# Altium schematic symbol library Schlib.SchLib: 166 symbols (part 2 of 4)
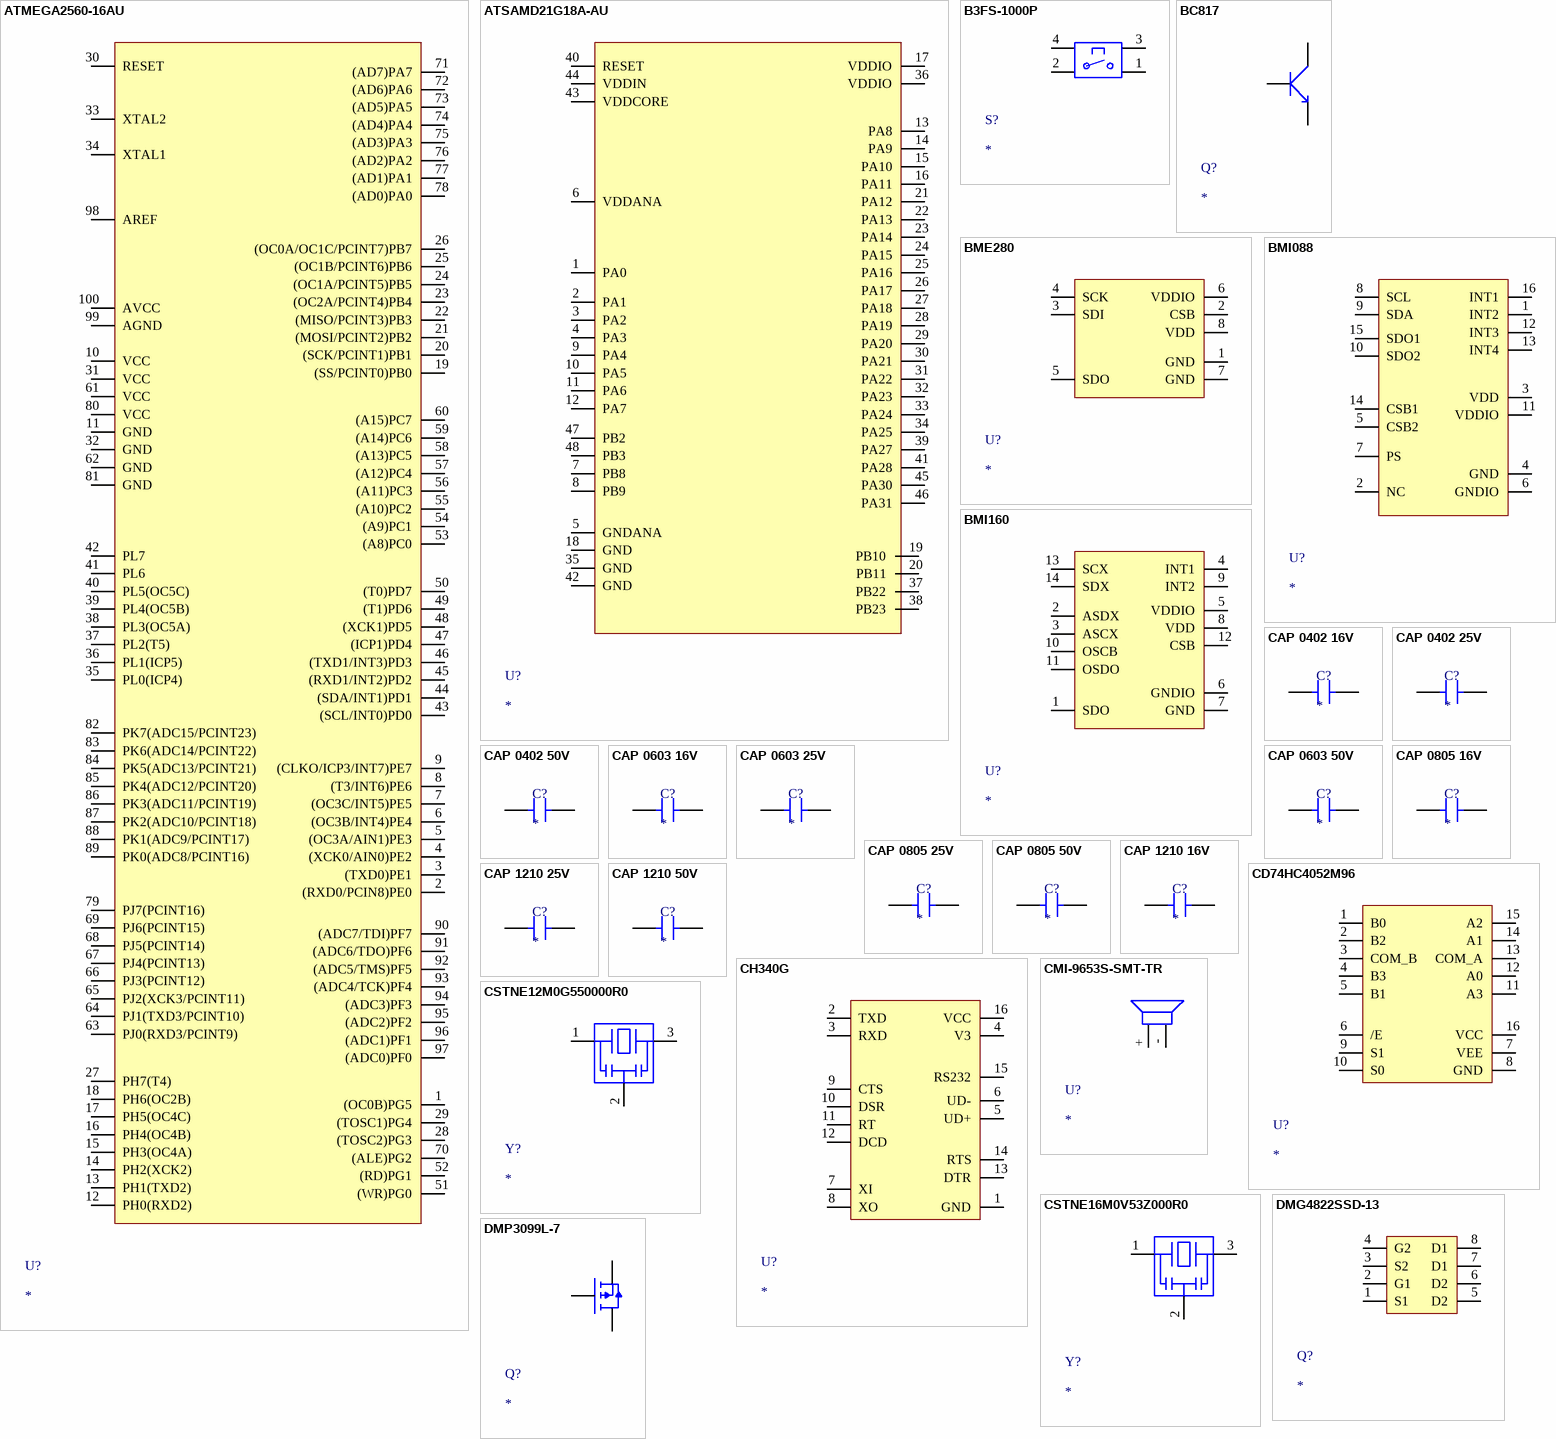
[diagram p7: symbols ATMEGA2560-16AU to DMP3099L-7]

## CMI-9653S-SMT-TR
designator U?
Buffer/Inverter Based Peripheral Driver, 1 Driver, PDSO8; Manufacturer: Same Sky; Manufacturer Part Number: CMI-9653S-SMT-TR; Package Body Material: Plastic; Built-in Protections: Over Current,Over Voltage,Under Voltage,TRANSIENT,THERMAL; Driver Number of Bits: 1; Interface IC Type: BUFFER OR INVERTER BASED PERIPHERAL DRIVER; Output Current Flow Direction: SOURCE; Package Equivalence Code: SOP8,.25; Power Supplies: 8/28V; Max Supply Voltage: 28V; Min Supply Voltage: 4.5V; Nominal Supply Voltage: 13V; Qualification Status: Not Qualified; Supplier: Arrow Electronics; Supplier Part Number: CMI-9653S-SMT-TR; RoHS: No; Stock: 15000; Pricing: 1200=1,596 (USD); ComponentLink1URL: https://www.cuidevices.com/product/resource/digikeypdf/cmi-9653s-smt-tr.pdf?src-supplier=Digikey; ComponentLink1Description: https://www.cuidevices.com/product/resource/digikeypdf/cmi-9653s-smt-tr.pdf?src-supplier=Digikey; ComponentLink2URL: https://datasheet.octopart.com/CMI-9653S-SMT-TR-Same-Sky-datasheet-182049004.pdf?src-supplier=Future+Electronics; ComponentLink2Description: https://datasheet.octopart.com/CMI-9653S-SMT-TR-Same-Sky-datasheet-182049004.pdf?src-supplier=Future+Electronics; ComponentLink3URL: https://datasheet.octopart.com/CMI-9653S-SMT-TR-CUI-Devices-datasheet-175925367.pdf?src-supplier=Master+Electronics; ComponentLink3Description: https://datasheet.octopart.com/CMI-9653S-SMT-TR-CUI-Devices-datasheet-175925367.pdf?src-supplier=Master+Electronics; Category: Hot Swap Controllers; Case/Package: SOP; Pins: 8; Package Shape: Rectangular; JESD-30 Code: R-PDSO-G8; Channels: 1; Package Style: SMALL OUTLINEMeter; Surface Mount: Yes; Terminal Form: Gull Wing; Terminal Position: DUAL; Length: 4.9mm; Width: 3.9mm; Height - Seated (Max): 1.75mm; Terminal Pitch: 1.27mm; Reach SVHC Compliant: Yes; RoHS Compliant: Yes; ComponentLink4URL: https://datasheet.ciiva.com:443/pdfs/VipMasterIC/IC/SGST/SGSTS49904/SGSTS49904-1.pdf?src-supplier=IHS+Markit; ComponentLink4Description: https://datasheet.ciiva.com:443/pdfs/VipMasterIC/IC/SGST/SGSTS49904/SGSTS49904-1.pdf?src-supplier=IHS+Markit; ComponentLink5URL: https://datasheet.ciiva.com/12213/cd00161993-115163-12213649.pdf?src-supplier=Mouser; ComponentLink5Description: https://datasheet.ciiva.com/12213/cd00161993-115163-12213649.pdf?src-supplier=Mouser; ComponentLink6URL: https://datasheet.ciiva.com/16510/cd00161993-16510912.pdf?src-supplier=Future+Electronics; ComponentLink6Description: https://datasheet.ciiva.com/16510/cd00161993-16510912.pdf?src-supplier=Future+Electronics; ComponentLink7URL: https://datasheet.ciiva.com/1956/cd00161993-1956305.pdf?src-supplier=Digikey; ComponentLink7Description: https://datasheet.ciiva.com/1956/cd00161993-1956305.pdf?src-supplier=Digikey
footprint CMI-9653S
pins: +, -

## CSTNE12M0G550000R0
designator Y?
Ceramic Resonator 12MHz ±0.5% (Tol ) ±0.2% (Stability) 33PF 30Ohm 3-Pin CSMD; Manufacturer: Murata; Manufacturer Part Number: CSTNE12M0G550000R0; Supplier 1: CoreStaff; RoHS: Yes; Category: Resonators; Stock 1: 10; Pricing 1: 1=77,6, 10=58,2, 50=36,86, 100=27,16, 500=17,46, 1000=15,52, 2000=14,55, 4000=14,36 (JPY); ComponentLink1URL: https://www.murata.com/en/products/productdata/8801162067998/SPEC-CSTNE12M0G550000R0.pdf?src-supplier=Digi-Key; ComponentLink1Description: https://www.murata.com/en/products/productdata/8801162067998/SPEC-CSTNE12M0G550000R0.pdf?src-supplier=Digi-Key; ComponentLink2URL: https://datasheet.octopart.com/CSTNE12M0G550000R0-Murata-datasheet-137044759.pdf?src-supplier=Future+Electronics; ComponentLink2Description: https://datasheet.octopart.com/CSTNE12M0G550000R0-Murata-datasheet-137044759.pdf?src-supplier=Future+Electronics; ComponentLink3URL: https://datasheet.octopart.com/CSTNE12M0G550000R0-Murata-datasheet-165611788.pdf?src-supplier=TME; ComponentLink3Description: https://datasheet.octopart.com/CSTNE12M0G550000R0-Murata-datasheet-165611788.pdf?src-supplier=TME
footprint CSTNE16M0V53Z000R0
pins: 1, 2, 3

## CSTNE16M0V53Z000R0
designator Y?
Ceramic Resonator 16MHz ±0.5% (Tol) ±0.3% (Stability) 15pF 40Ohm 3-Pin CSMD T/R; Manufacturer: Murata; Manufacturer Part Number: CSTNE16M0V53Z000R0; Impedance: 40R; Supplier 1: Arrow Electronics; RoHS: Yes; Category: Resonators; Stock 1: 87000; Pricing 1: 3000=0,1298, 6000=0,1244, 15000=0,1189 (USD); Mount: Surface Mount; Case/Package: SMD/SMT; Min Operating Temperature: -40°C; Max Operating Temperature: 125°C; Packaging: Cut Tape; Frequency: 16MHz; Frequency Stability: 0.3%; Frequency Tolerance: 0.5%; Capacitance: 15pF; Series: CERALOCK® CSTNE; RoHS Compliant: Yes; ComponentLink1URL: https://www.murata.com/en/products/productdata/8801162199070/SPEC-CSTNE16M0V53Z000R0.pdf?src-supplier=Digi-Key; ComponentLink1Description: https://www.murata.com/en/products/productdata/8801162199070/SPEC-CSTNE16M0V53Z000R0.pdf?src-supplier=Digi-Key
footprint CSTNE16M0V53Z000R0
pins: 1, 2, 3

## DMG4822SSD-13
designator Q?
Dual N-Channel 30 V 1.42 W 10.5 nC Enhancement Mode Mosfet - SOIC-8; Manufacturer: Diodes; Manufacturer Part Number: DMG4822SSD-13; Rds On Max: 20mR; Input Capacitance: 478.9pF; Rise Time: 7.9ns; Drain to Source Voltage (Vdss): 30V; Continuous Drain Current (ID): 10A; Max Power Dissipation: 1.42W; Fall Time: 3.1ns; Turn-Off Delay Time: 14.6ns; Turn-On Delay Time: 2.9ns; Gate to Source Voltage (Vgs): 25V; Number of Channels: 2; FET Type: 2 N-Channel; Supplier 1: Arrow Electronics; RoHS: Yes; Category: MOSFETs; Stock 1: 2374; Pricing 1: 1=0,5556, 10=0,4998, 25=0,4948, 100=0,3987, 250=0,3947, 500=0,3232, 1000=0,265 (USD); Mount: Surface Mount; Case/Package: SOIC; Number of Pins: 8; Weight: 0.00261oz; Min Operating Temperature: -55°C; Max Operating Temperature: 150°C; Package Quantity: 2500; Packaging: Tape and Reel; Drain to Source Resistance: 20mR; Polarity: N-CHANNEL; Series: -; Length: 4.95mm; Width: 3.95mm; Height: 1.5mm; Radiation Hardening: No; Lead Free: Lead Free; Reach SVHC Compliant: Yes; RoHS Compliant: Yes; ComponentLink1URL: https://datasheet.ciiva.com/4443/dmg4822ssd-10758-4443079.pdf?src-supplier=Mouser; ComponentLink1Description: https://datasheet.ciiva.com/4443/dmg4822ssd-10758-4443079.pdf?src-supplier=Mouser; ComponentLink2URL: https://datasheet.ciiva.com/6386/dmg4822ssd-6386688.pdf?src-supplier=Digi-Key; ComponentLink2Description: https://datasheet.ciiva.com/6386/dmg4822ssd-6386688.pdf?src-supplier=Digi-Key; ComponentLink3URL: https://datasheet.ciiva.com/11174/dmg4822ssd-11174891.pdf?src-supplier=Avnet; ComponentLink3Description: https://datasheet.ciiva.com/11174/dmg4822ssd-11174891.pdf?src-supplier=Avnet
footprint DMG4822SSD-13
pins: 1 S1, 2 G1, 3 S2, 4 G2, 5 D2, 6 D2, 7 D1, 8 D1

## DMP3099L-7
designator Q?
Transistor, MOSFET, P-Channel, 30V, 3.8A, 1.08W, SOT-23, SMD; Manufacturer: Diodes; Manufacturer Part Number: DMP3099L-7; Rise Time: 5ns; Rds On Max: 65mR; Input Capacitance: 563pF; Drain to Source Voltage (Vdss): -30V; Turn-On Delay Time: 4.8ns; Turn-Off Delay Time: 31ns; Fall Time: 15ns; Threshold Voltage: -2.1V; Gate to Source Voltage (Vgs): 20V; Number of Channels: 1; Supplier 1: Future Electronics; RoHS: Yes; Category: MOSFETs; Stock 1: 1128000; Pricing 1: 3000=0,0338 (USD); Mount: Surface Mount; Case/Package: SOT-23; Number of Pins: 3; Weight: 0.000282oz; Min Operating Temperature: -55°C; Max Operating Temperature: 150°C; Package Quantity: 3000; Packaging: Tape and Reel; Continuous Drain Current (ID): 3.8A; Max Power Dissipation: 1.08W; Drain to Source Resistance: 65mR; Polarity: P-CHANNEL; Series: -; Drain to Source Breakdown Voltage: -30V; Power Dissipation: 1.08W; Length: 3mm; Width: 1.4mm; Height: 1.1mm; Radiation Hardening: No; Reach SVHC Compliant: No; Lead Free: Lead Free; RoHS Compliant: Yes; ComponentLink1URL: http://www.farnell.com/datasheets/2040103.pdf?src-supplier=Farnell; ComponentLink1Description: http://www.farnell.com/datasheets/2040103.pdf?src-supplier=Farnell; ComponentLink2URL: http://www.mouser.com/ds/2/115/DMP3099L-266220.pdf?src-supplier=Mouser; ComponentLink2Description: http://www.mouser.com/ds/2/115/DMP3099L-266220.pdf?src-supplier=Mouser; ComponentLink3URL: http://www.alliedelec.com/m/d/a7453f83181edfde31570147b9d1ef2f.pdf?src-supplier=Allied+Electronics; ComponentLink3Description: http://www.alliedelec.com/m/d/a7453f83181edfde31570147b9d1ef2f.pdf?src-supplier=Allied+Electronics; ComponentLink4URL: http://www.farnell.com/datasheets/2040103.pdf?src-supplier=Element14; ComponentLink4Description: http://www.farnell.com/datasheets/2040103.pdf?src-supplier=Element14; ComponentLink5URL: http://www.farnell.com/datasheets/2040103.pdf?src-supplier=Newark; ComponentLink5Description: http://www.farnell.com/datasheets/2040103.pdf?src-supplier=Newark; ComponentLink6URL: http://www.diodes.com/datasheets/DMP3099L.pdf?src-supplier=Avnet; ComponentLink6Description: http://www.diodes.com/datasheets/DMP3099L.pdf?src-supplier=Avnet
footprint Si2309CDS
pins: 1 G, 2 S, 3 D

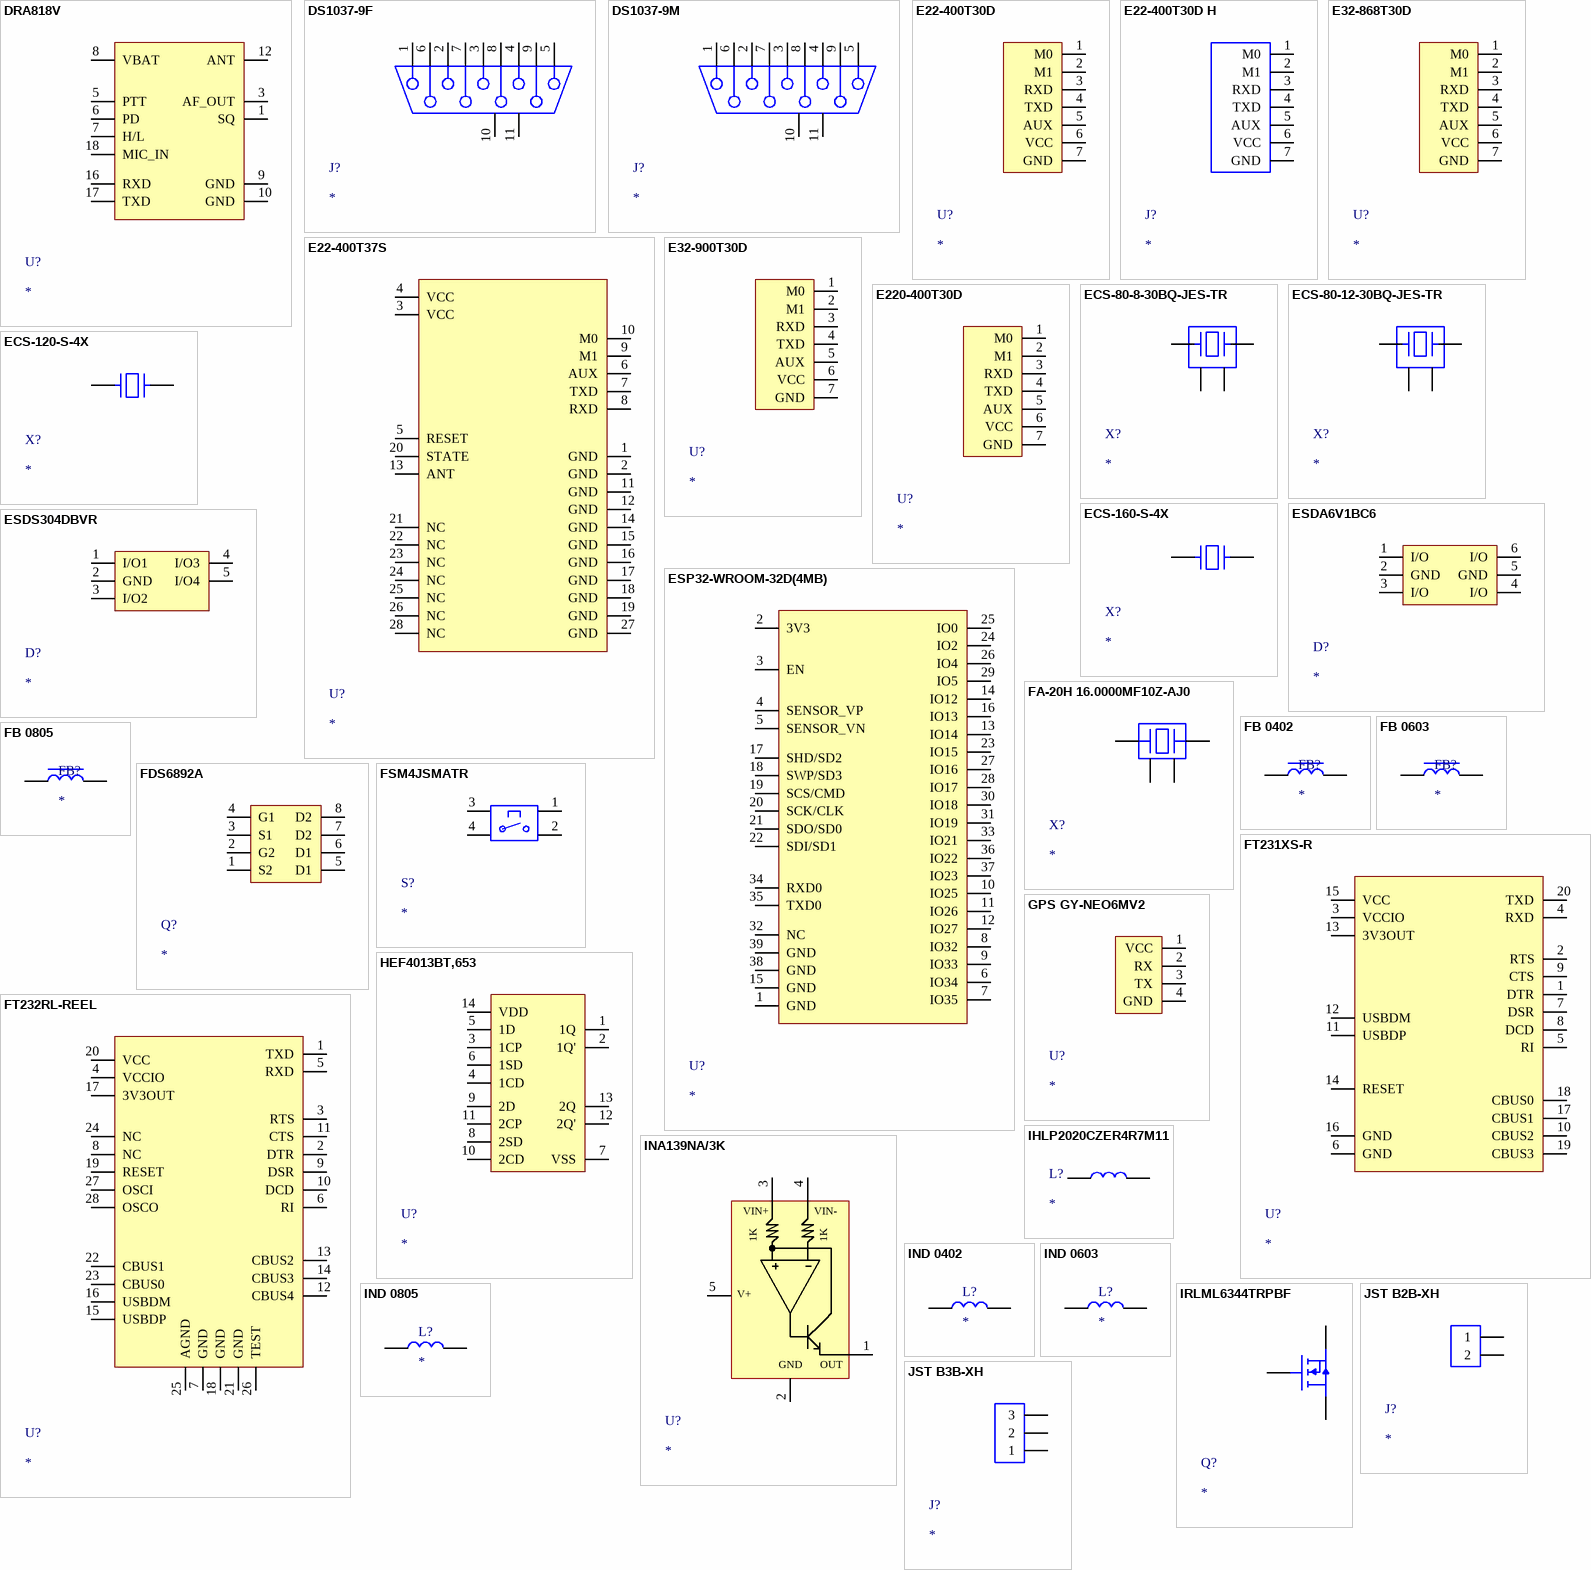
[diagram p2: symbols DRA818V to JST B3B-XH]

## DRA818V
designator U?
VHF Band Voice Transceiver Module
footprint DORJI_DRA818V
pins: 1 SQ, 3 AF_OUT, 5 PTT, 6 PD, 7 H/L, 8 VBAT, 9 GND, 10 GND, 12 ANT, 16 RXD, 17 TXD, 18 MIC_IN

## DS1037-9F
designator J?
DBUS connector 9 Pin Female
footprint DS1037-F
pins: 1, 2, 3, 4, 5, 6, 7, 8, 9, 10, 11

## DS1037-9M
designator J?
DBUS connector 9 Pin Male
footprint DS1037-M
pins: 1, 2, 3, 4, 5, 6, 7, 8, 9, 10, 11

## E22-400T30D
designator U?
SX1268 E22-400T30D LoRa Module Header
footprint LORA E220-400T30D
pins: 1 M0, 2 M1, 3 RXD, 4 TXD, 5 AUX, 6 VCC, 7 GND

## E22-400T30D H
designator J?
E22-400T30D LoRa Module Header
footprint LoRa E22-400T30D H
pins: 1 M0, 2 M1, 3 RXD, 4 TXD, 5 AUX, 6 VCC, 7 GND

## E22-400T37S
designator U?
SX1268 E22-400T37S LoRa Module
footprint LORA E22-400T37S
pins: 1 GND, 2 GND, 3 VCC, 4 VCC, 5 RESET, 6 AUX, 7 TXD, 8 RXD, 9 M1, 10 M0, 11 GND, 12 GND, 13 ANT, 14 GND, 15 GND, 16 GND, 17 GND, 18 GND, 19 GND, 20 STATE, 21 NC, 22 NC, 23 NC, 24 NC, 25 NC, 26 NC, 27 GND, 28 NC

## E32-868T30D
designator U?
SX1276 E32-868T30D LoRa Module
footprint LoRa E32-868T30D
pins: 1 M0, 2 M1, 3 RXD, 4 TXD, 5 AUX, 6 VCC, 7 GND

## E32-900T30D
designator U?
SX1276 E32-868T30D LoRa Module
footprint LORA E32-900T30D
pins: 1 M0, 2 M1, 3 RXD, 4 TXD, 5 AUX, 6 VCC, 7 GND

## E220-400T30D
designator U?
LLCC68 E220-400T30D LoRa Module
footprint LORA E220-400T30D
pins: 1 M0, 2 M1, 3 RXD, 4 TXD, 5 AUX, 6 VCC, 7 GND

## ECS-80-8-30BQ-JES-TR
designator X?
Crystals ECX-53BQ 8.000 MHz 8 pF 5032 4 pad AECQ +/-20/50 ppm -40 +125 C 100O Max ESR; Manufacturer: ECS International; Manufacturer Part Number: ECS-80-8-30BQ-JES-TR; Supplier 1: Digi-Key; RoHS: No; Stock 1: 18392; Pricing 1: 1=0,79, 10=0,697, 50=0,6514, 100=0,5757, 500=0,5454 (USD); Supplier Part Number 1: 50-ECS-80-8-30BQ-JES-CT-ND
footprint ECS-80-8-30BQ-JES-TR
pins: 1 IN/OUT, 2 GND, 3 OUT/IN, 4 GND

## ECS-80-12-30BQ-JES-TR
designator X?
Crystal 8MHz 12pF 4-Pin SMD T/R; Manufacturer: ECS International; Manufacturer Part Number: ECS-80-12-30BQ-JES-TR; Supplier 1: Digi-Key; RoHS: No; Category: Uncategorized; Stock 1: 8978; Pricing 1: 1=0,88, 10=0,777, 50=0,7266, 100=0,6421, 500=0,60834 (USD); Supplier Part Number 1: 50-ECS-80-12-30BQ-JES-CT-ND
footprint ECS-80-8-30BQ-JES-TR
pins: 1 IN/OUT, 2 GND, 3 OUT/IN, 4 GND

## ECS-120-S-4X
designator X?
Crystal 12MHz ±30ppm (Tol) ±50ppm (Stability) Series FUND 60Ohm 2-Pin HC-49/USX Thru-Hole Bulk; Manufacturer: ECS International; Manufacturer Part Number: ECS-120-S-4X; ESR (Equivalent Series Resistance): 60R; Supplier 1: Arrow Electronics; RoHS: Yes; Category: Crystals; Stock 1: 2209; Pricing 1: 1=0,4681, 10=0,407, 50=0,4025, 100=0,3735, 500=0,3613, 1000=0,3221, 2500=0,3087 (USD); Mount: Through Hole; Number of Pins: 49; Min Operating Temperature: -10°C; Max Operating Temperature: 70°C; Frequency: 12MHz; Package Quantity: 200; Tolerance: 30ppm; Packaging: Bulk; Frequency Tolerance: 30ppm; Frequency Stability: 50ppm; Termination: Radial; Series: HC-49USX; Length: 11.35mm; Width: 4.65mm; Height: 3.5mm; Lead Free: Lead Free; ComponentLink1URL: https://datasheet.ciiva.com/853/hc-49usx-853380.pdf?src-supplier=Digi-Key; ComponentLink1Description: https://datasheet.ciiva.com/853/hc-49usx-853380.pdf?src-supplier=Digi-Key
footprint XTAL_ECS-120-S-4X
pins: 1, 2

## ECS-160-S-4X
designator X?
Crystal 16MHz ±30ppm (Tol) ±50ppm (Stability) Series FUND 40Ohm 2-Pin HC-49/USX Thru-Hole Bulk; Manufacturer: ECS International; Manufacturer Part Number: ECS-160-S-4X; ESR (Equivalent Series Resistance): 40R; Supplier 1: Arrow Electronics; RoHS: Yes; Category: Crystals; Stock 1: 1199; Pricing 1: 1=0,4681, 10=0,407, 50=0,4024, 100=0,3736, 500=0,36, 1000=0,3221, 2500=0,3088 (USD); Mount: Through Hole; Min Operating Temperature: -10°C; Max Operating Temperature: 70°C; Package Quantity: 200; Frequency: 16MHz; Frequency Tolerance: 30ppm; Packaging: Bulk; Tolerance: 30ppm; Frequency Stability: 50ppm; Termination: Radial; Series: HC-49USX; Length: 11.35mm; Width: 4.65mm; Height: 3.5mm; Lead Free: Lead Free; RoHS Compliant: Yes; ComponentLink1URL: https://datasheet.ciiva.com/853/hc-49usx-853395.pdf?src-supplier=Digi-Key; ComponentLink1Description: https://datasheet.ciiva.com/853/hc-49usx-853395.pdf?src-supplier=Digi-Key
footprint XTAL_ECS-160-S-4X
pins: 1, 2

## ESDA6V1BC6
designator D?
Trans Voltage Suppressor Diode, 80W, 5V V(RWM), Bidirectional, 4 Element, Silicon; Manufacturer: STMicroelectronics; Manufacturer Part Number: ESDA6V1BC6; Package Body Material: Plastic; Max Breakdown Voltage: 8V; Min Breakdown Voltage: 6.1V; Number of Elements: 4; Time @ Peak Reflow Temperature-Max (s): 30s; Qualification Status: Not Qualified; Supplier: Arrow Electronics; Supplier Part Number: ESDA6V1BC6; RoHS: Yes; Category: TVS Diodes; Stock: 84000; Pricing: 3000=0,1532 (USD); Pins: 6; Diode Element Material: SILICON; Package Shape: Rectangular; Terminal Finish: Nickel; Max Operating Temperature: 150°C; JESD-609 Code: e4; Polarity: Bidirectional; Diode Type: TRANS VOLTAGE SUPPRESSOR; JESD-30 Code: R-PDSO-G6; Moisture Sensitivity Level: 1; Non-rep Peak Rev Power Dis-Max: 80W; Package Style: SMALL OUTLINEMeter; Peak Reflow Temperature (Cel): 260°C; Rep Pk Reverse Voltage-Max: 5V; Surface Mount: Yes; Technology: AVALANCHE; Terminal Form: Gull Wing; Terminal Position: DUAL; Reach SVHC Compliant: Yes; RoHS Compliant: Yes; ComponentLink1URL: https://datasheet.ciiva.com:443/pdfs/VipMasterIC/IC/SGST/SGSTS47549/SGSTS47549-1.pdf?src-supplier=IHS+Markit; ComponentLink1Description: https://datasheet.ciiva.com:443/pdfs/VipMasterIC/IC/SGST/SGSTS47549/SGSTS47549-1.pdf?src-supplier=IHS+Markit; ComponentLink2URL: https://datasheet.ciiva.com/14186/esda6v1bc6-st-eng-tds-14186554.pdf?src-supplier=Distrelec; ComponentLink2Description: https://datasheet.ciiva.com/14186/esda6v1bc6-st-eng-tds-14186554.pdf?src-supplier=Distrelec; ComponentLink3URL: https://datasheet.ciiva.com/4507/cd00001906-94538-4507893.pdf?src-supplier=Mouser; ComponentLink3Description: https://datasheet.ciiva.com/4507/cd00001906-94538-4507893.pdf?src-supplier=Mouser; ComponentLink4URL: https://datasheet.ciiva.com/15143/getdatasheetpartid-148472-15143793.pdf?src-supplier=Verical; ComponentLink4Description: https://datasheet.ciiva.com/15143/getdatasheetpartid-148472-15143793.pdf?src-supplier=Verical; ComponentLink5URL: https://datasheet.ciiva.com/7662/1671767-7662124.pdf?src-supplier=Element14; ComponentLink5Description: https://datasheet.ciiva.com/7662/1671767-7662124.pdf?src-supplier=Element14; ComponentLink6URL: https://datasheet.ciiva.com/338/cd00001906-338704.pdf?src-supplier=Digikey; ComponentLink6Description: https://datasheet.ciiva.com/338/cd00001906-338704.pdf?src-supplier=Digikey; ComponentLink7URL: https://datasheet.ciiva.com/338/cd00001906-338705.pdf?src-supplier=Digikey; ComponentLink7Description: https://datasheet.ciiva.com/338/cd00001906-338705.pdf?src-supplier=Digikey; ComponentLink8URL: https://datasheet.ciiva.com/11194/cd00001906-11194053.pdf?src-supplier=Avnet; ComponentLink8Description: https://datasheet.ciiva.com/11194/cd00001906-11194053.pdf?src-supplier=Avnet
footprint SOT-23-6
pins: 1 I/O, 2 GND, 3 I/O, 4 I/O, 5 GND, 6 I/O

## ESDS304DBVR
designator D?
Trans Voltage Suppressor Diode, 85W, 3.6V V(RWM), Unidirectional, 4 Element, Silicon; Manufacturer: Texas Instruments; Manufacturer Part Number: ESDS304DBVR; Supplier: Mouser; Supplier Part Number: 595-ESDS304DBVR; RoHS: Yes; Category: TVS Diodes; Stock: 132; Pricing: 1=0,45, 10=0,304, 50=0,304, 100=0,282, 1000=0,202, 10000=0,15 (USD); Terminal Finish: Tin; JESD-609 Code: e3; Diode Type: TRANS VOLTAGE SUPPRESSOR; Moisture Sensitivity Level: 1; Reach SVHC Compliant: Yes; RoHS Compliant: Yes; ComponentLink1URL: https://www.ti.com:443/lit/ds/symlink/esds302.pdf?src-supplier=IHS+Markit; ComponentLink1Description: https://www.ti.com:443/lit/ds/symlink/esds302.pdf?src-supplier=IHS+Markit; ComponentLink2URL: http://www.ti.com/lit/ds/symlink/esds302.pdf?src-supplier=Digikey; ComponentLink2Description: http://www.ti.com/lit/ds/symlink/esds302.pdf?src-supplier=Digikey
footprint SOT-23-5
pins: 1 I/O1, 2 GND, 3 I/O2, 4 I/O3, 5 I/O4

## ESP32-WROOM-32D(4MB)
designator U?
Rx Txrx Mod Wifi Trace Ant SMD; Manufacturer: Espressif Systems; Manufacturer Part Number: ESP32-WROOM-32D(4MB); Supplier: Mouser; Supplier Part Number: 356-ESP32WROOM32D4MB; RoHS: No; Category: LDO
footprint ESP32-WROOM-32
pins: 1 GND, 2 3V3, 3 EN, 4 SENSOR_VP, 5 SENSOR_VN, 6 IO34, 7 IO35, 8 IO32, 9 IO33, 10 IO25, 11 IO26, 12 IO27, 13 IO14, 14 IO12, 15 GND, 16 IO13, 17 SHD/SD2, 18 SWP/SD3, 19 SCS/CMD, 20 SCK/CLK, 21 SDO/SD0, 22 SDI/SD1, 23 IO15, 24 IO2, 25 IO0, 26 IO4, 27 IO16, 28 IO17, 29 IO5, 30 IO18, 31 IO19, 32 NC, 33 IO21, 34 RXD0, 35 TXD0, 36 IO22, 37 IO23, 38 GND, 39 GND

## FA-20H 16.0000MF10Z-AJ0
designator X?
Crystal 16MHz ±10ppm (Tol) ±10ppm (Stability) 8pF FUND 80Ohm 4-Pin Ultra Mini-CSMD T/R; Manufacturer: Epson; Manufacturer Part Number: FA-20H 16.0000MF10Z-AJ0; Supplier 1: Digi-Key; RoHS: Yes; Category: Crystals; Stock 1: 229665; Pricing 1: 1=0,73, 10=0,606, 50=0,5454, 100=0,4848, 500=0,46056 (USD); ComponentLink1URL: https://support.epson.biz/td/api/doc_check.php?dl=brief_FA-20H&amp;lang=en&src-supplier=Digi-Key; ComponentLink1Description: https://support.epson.biz/td/api/doc_check.php?dl=brief_FA-20H&amp;lang=en&src-supplier=Digi-Key; ComponentLink2URL: https://www5.epsondevice.com/en/information/support/pdf/june_2018_psc_masterbook.pdf?src-supplier=Digi-Key; ComponentLink2Description: https://www5.epsondevice.com/en/information/support/pdf/june_2018_psc_masterbook.pdf?src-supplier=Digi-Key; ComponentLink3URL: https://www.eea.epson.com/wp-content/uploads/2016/11/November-2016-PCS-MASTER-BOOK.pdf?src-supplier=Digi-Key; ComponentLink3Description: https://www.eea.epson.com/wp-content/uploads/2016/11/November-2016-PCS-MASTER-BOOK.pdf?src-supplier=Digi-Key
footprint FA-20H 16.0000MF10Z-AJ0
pins: 1, 2, 3, 4

## FB 0402
designator FB?
Ferrite Bead SMD 0402
footprint FB 0402
pins: 1, 2

## FB 0603
designator FB?
Ferrite Bead SMD 0603
footprint FB 0603
pins: 1, 2

## FB 0805
designator FB?
Ferrite Bead SMD 0805
footprint FB 0805
pins: 1, 2

## FDS6892A
designator Q?
Dual N-Channel Logic Level PWM Optimized PowerTrench® MOSFET 20V, 7.5A, 18mΩ; Manufacturer: ON Semiconductor / Fairchild; Manufacturer Part Number: FDS6892A; Supplier 1: Arrow Electronics; RoHS: Yes; Category: MOSFETs; Stock 1: 45; Pricing 1: 1=0,4552, 539=0,4077 (USD); ComponentLink1URL: https://datasheet.ciiva.com/15137/getdatasheetpartid-60185-15137252.pdf?src-supplier=Verical; ComponentLink1Description: https://datasheet.ciiva.com/15137/getdatasheetpartid-60185-15137252.pdf?src-supplier=Verical; ComponentLink2URL: https://datasheet.ciiva.com/8114/fds6892a-8114609.pdf?src-supplier=Avnet; ComponentLink2Description: https://datasheet.ciiva.com/8114/fds6892a-8114609.pdf?src-supplier=Avnet; ComponentLink3URL: https://datasheet.ciiva.com/6076/89392-6076006.pdf?src-supplier=Farnell; ComponentLink3Description: https://datasheet.ciiva.com/6076/89392-6076006.pdf?src-supplier=Farnell; ComponentLink4URL: https://datasheet.ciiva.com/4442/fds6892a-108922-4442276.pdf?src-supplier=Mouser; ComponentLink4Description: https://datasheet.ciiva.com/4442/fds6892a-108922-4442276.pdf?src-supplier=Mouser; ComponentLink5URL: https://datasheet.ciiva.com/16777/fds6892a-16777782.pdf?src-supplier=Future+Electronics; ComponentLink5Description: https://datasheet.ciiva.com/16777/fds6892a-16777782.pdf?src-supplier=Future+Electronics; ComponentLink6URL: https://datasheet.ciiva.com/6386/fds6892a-6386538.pdf?src-supplier=Digikey; ComponentLink6Description: https://datasheet.ciiva.com/6386/fds6892a-6386538.pdf?src-supplier=Digikey
footprint DMG4822SSD-13
pins: 1 S2, 2 G2, 3 S1, 4 G1, 5 D1, 6 D1, 7 D2, 8 D2

## FSM4JSMATR
designator S?
Switch Tactile OFF (ON) SPST Round Button Gull Wing 0.05A 24VDC 1.57N SMD T/R; Manufacturer: TE Connectivity Alcoswitch; Manufacturer Part Number: FSM4JSMATR; Supplier 1: Digi-Key; RoHS: Yes; Category: Pushbutton Switches; Stock 1: 84996; Pricing 1: 1=0,36, 10=0,351, 25=0,33, 100=0,2866, 250=0,26, 500=0,24188 (USD); ComponentLink1URL: https://datasheet.ciiva.com/16320/eng-cs-1308111-1-switches-core-program-catalog-0308-16320065.pdf?src-supplier=Future+Electronics; ComponentLink1Description: https://datasheet.ciiva.com/16320/eng-cs-1308111-1-switches-core-program-catalog-0308-16320065.pdf?src-supplier=Future+Electronics; ComponentLink2URL: https://datasheet.ciiva.com/1530/1683375-1530944.pdf?src-supplier=Element14; ComponentLink2Description: https://datasheet.ciiva.com/1530/1683375-1530944.pdf?src-supplier=Element14; ComponentLink3URL: https://datasheet.ciiva.com/23765/1486934-23765878.pdf?src-supplier=Newark; ComponentLink3Description: https://datasheet.ciiva.com/23765/1486934-23765878.pdf?src-supplier=Newark; ComponentLink4URL: https://datasheet.ciiva.com/7638/921681-7638037.pdf?src-supplier=Element14; ComponentLink4Description: https://datasheet.ciiva.com/7638/921681-7638037.pdf?src-supplier=Element14
footprint FSM4JSMATR
pins: 1, 2, 3, 4

## FT231XS-R
designator U?
FT231XS-R Interface RS232, RS422, RS485, SIE, UART 3MBd, 5 V, 20-Pin, SSOP; Manufacturer: FTDI; Supplier 1: Arrow Electronics; Manufacturer Part Number: FT231XS-R; RoHS: Yes; Category: Interface ICs; Stock 1: 2000; Pricing 1: 2000=2,15 (USD); ComponentLink1URL: https://datasheet.ciiva.com/30478/0900766b811020d3-30478147.pdf?src-supplier=Rs; ComponentLink1Description: https://datasheet.ciiva.com/30478/0900766b811020d3-30478147.pdf?src-supplier=Rs; ComponentLink2URL: https://datasheet.ciiva.com/48909/70403932-48909078.pdf?src-supplier=Allied+Electronics; ComponentLink2Description: https://datasheet.ciiva.com/48909/70403932-48909078.pdf?src-supplier=Allied+Electronics; ComponentLink3URL: https://datasheet.ciiva.com/1787/ft-x-series-1787028.pdf?src-supplier=Digi-Key; ComponentLink3Description: https://datasheet.ciiva.com/1787/ft-x-series-1787028.pdf?src-supplier=Digi-Key; ComponentLink4URL: https://datasheet.ciiva.com/1787/ft-x-series-1787029.pdf?src-supplier=Digi-Key; ComponentLink4Description: https://datasheet.ciiva.com/1787/ft-x-series-1787029.pdf?src-supplier=Digi-Key; ComponentLink5URL: https://datasheet.ciiva.com/1787/ft-x-series-1787030.pdf?src-supplier=Digi-Key; ComponentLink5Description: https://datasheet.ciiva.com/1787/ft-x-series-1787030.pdf?src-supplier=Digi-Key
footprint FT231XS-R
pins: 1 DTR, 2 RTS, 3 VCCIO, 4 RXD, 5 RI, 6 GND, 7 DSR, 8 DCD, 9 CTS, 10 CBUS2, 11 USBDP, 12 USBDM, 13 3V3OUT, 14 RESET, 15 VCC, 16 GND, 17 CBUS1, 18 CBUS0, 19 CBUS3, 20 TXD

## FT232RL-REEL
designator U?
IC USB FS SERIAL UART 28-SSOP; Manufacturer: FTDI; Manufacturer Part Number: FT232RL-REEL; Interface: UART,RS-232,RS-422,RS-485; Data Rate: 12Mbps; Number of Channels: 1; Max Supply Voltage: 5.25V; Min Supply Voltage: 3.3V; Operating Supply Current: 15mA; Voltage: 5V; Supplier 1: Arrow Electronics; RoHS: Yes; Category: Interface ICs; Stock 1: 3812; Pricing 1: 1=4,75, 10=4,3, 50=4,1 (USD); Mount: Surface Mount; Case/Package: SSOP; Number of Pins: 28; Weight: 0.080001oz; Min Operating Temperature: -40°C; Max Operating Temperature: 85°C; Packaging: Tape and Reel; Series: USBmadeEZ-UART; Package Quantity: 1; Number of Transceivers: 1; Length: 10.2mm; Width: 5.3mm; Height: 1.75mm; Radiation Hardening: No; Lead Free: Lead Free; RoHS Compliant: Yes; Reach SVHC Compliant: No; ComponentLink1URL: https://datasheet.ciiva.com/34304/2161019-34304054.pdf?src-supplier=Jameco; ComponentLink1Description: https://datasheet.ciiva.com/34304/2161019-34304054.pdf?src-supplier=Jameco; ComponentLink2URL: https://datasheet.ciiva.com/4787/ds-ft232r-11534-4787658.pdf?src-supplier=Mouser; ComponentLink2Description: https://datasheet.ciiva.com/4787/ds-ft232r-11534-4787658.pdf?src-supplier=Mouser; ComponentLink3URL: https://datasheet.ciiva.com/1787/ds-ft232r-1787048.pdf?src-supplier=Digikey; ComponentLink3Description: https://datasheet.ciiva.com/1787/ds-ft232r-1787048.pdf?src-supplier=Digikey; ComponentLink4URL: https://datasheet.ciiva.com/1787/ds-ft232r-1787047.pdf?src-supplier=Digikey; ComponentLink4Description: https://datasheet.ciiva.com/1787/ds-ft232r-1787047.pdf?src-supplier=Digikey; ComponentLink5URL: https://datasheet.ciiva.com/1787/ds-ft232r-1787049.pdf?src-supplier=Digikey; ComponentLink5Description: https://datasheet.ciiva.com/1787/ds-ft232r-1787049.pdf?src-supplier=Digikey; ComponentLink6URL: https://datasheet.ciiva.com/16200/ds-ft232r-16200652.pdf?src-supplier=Future+Electronics; ComponentLink6Description: https://datasheet.ciiva.com/16200/ds-ft232r-16200652.pdf?src-supplier=Future+Electronics; ComponentLink7URL: https://datasheet.ciiva.com/15150/getdatasheetpartid-643207-15150506.pdf?src-supplier=Verical; ComponentLink7Description: https://datasheet.ciiva.com/15150/getdatasheetpartid-643207-15150506.pdf?src-supplier=Verical
footprint FT232RL
pins: 1 TXD, 2 DTR, 3 RTS, 4 VCCIO, 5 RXD, 6 RI, 7 GND, 8 NC, 9 DSR, 10 DCD, 11 CTS, 12 CBUS4, 13 CBUS2, 14 CBUS3, 15 USBDP, 16 USBDM, 17 3V3OUT, 18 GND, 19 RESET, 20 VCC, 21 GND, 22 CBUS1, 23 CBUS0, 24 NC, 25 AGND, 26 TEST, 27 OSCI, 28 OSCO

## GPS GY-NEO6MV2
designator U?
GY-NEO6MV2 GPS Module
footprint GPS GY-NEO6MV2
pins: 1 VCC, 2 RX, 3 TX, 4 GND

## HEF4013BT,653
designator U?
D Flip-Flop, 4000/14000/40000 Series, 2-Func, Positive Edge Triggered, 1-Bit, Complementary Output, CMOS, PDSO14; Manufacturer: Nexperia; Manufacturer Part Number: HEF4013BT,653; Package Body Material: Plastic; fmax-Min: 7MHz; Load Capacitance (CL): 50pF; Number of Bits: 1; Channels: 2; Propagation Delay (tpd): 220ns; Max Supply Voltage: 15V; Min Supply Voltage: 3V; Nominal Supply Voltage: 5V; Time @ Peak Reflow Temperature-Max (s): 30s; Qualification Status: Not Qualified; Supplier: Future Electronics; Supplier Part Number: 5272661; RoHS: Yes; Category: Latches and Flip Flops; Stock: 85000; Pricing: 2500=0,0859, 5000=0,0844, 7500=0,0835, 10000=0,0829, 12500=0,081 (USD); Case/Package: SOP; Pins: 14; Package Shape: Rectangular; Terminal Finish: Nickel; Min Operating Temperature: -40°C; Max Operating Temperature: 85°C; JESD-30 Code: R-PDSO-G14; Package Style: SMALL OUTLINEMeter; Surface Mount: Yes; Terminal Form: Gull Wing; Terminal Position: DUAL; JESD-609 Code: e4; Output Polarity: Complementary; Clock Edge Trigger Type: Positive Edge; Logic Type: D FLIP-FLOP; Moisture Sensitivity Level: 1; Peak Reflow Temperature (Cel): 260°C; Technology: CMOS; Length: 8.65mm; Width: 3.9mm; Height - Seated (Max): 1.75mm; Terminal Pitch: 1.27mm; Reach SVHC Compliant: Yes; RoHS Compliant: Yes; Temperature Grade: INDUSTRIAL; ComponentLink1URL: https://datasheet.ciiva.com:443/pdfs/VipMasterIC/IC/PHGL/PHGLS23974/PHGLS23974-1.pdf?src-supplier=IHS+Markit; ComponentLink1Description: https://datasheet.ciiva.com:443/pdfs/VipMasterIC/IC/PHGL/PHGLS23974/PHGLS23974-1.pdf?src-supplier=IHS+Markit; ComponentLink2URL: https://datasheet.octopart.com/HEF4013BT%2C653-NXP-Semiconductors-datasheet-20734456.pdf?src-supplier=Farnell; ComponentLink2Description: https://datasheet.octopart.com/HEF4013BT%2C653-NXP-Semiconductors-datasheet-20734456.pdf?src-supplier=Farnell; ComponentLink3URL: https://datasheet.octopart.com/HEF4013BT%2C653-NXP-datasheet-528878.pdf?src-supplier=Future+Electronics; ComponentLink3Description: https://datasheet.octopart.com/HEF4013BT%2C653-NXP-datasheet-528878.pdf?src-supplier=Future+Electronics; ComponentLink4URL: https://datasheet.octopart.com/HEF4013BT%2C653-Philips-datasheet-11834773.pdf?src-supplier=Arrow+Electronics; ComponentLink4Description: https://datasheet.octopart.com/HEF4013BT%2C653-Philips-datasheet-11834773.pdf?src-supplier=Arrow+Electronics; ComponentLink5URL: https://assets.nexperia.com/documents/data-sheet/HEF4013B.pdf?src-supplier=Digikey; ComponentLink5Description: https://assets.nexperia.com/documents/data-sheet/HEF4013B.pdf?src-supplier=Digikey; ComponentLink6URL: https://datasheet.octopart.com/HEF4013BT%2C653-Nexperia-datasheet-10028690.pdf?src-supplier=Newark; ComponentLink6Description: https://datasheet.octopart.com/HEF4013BT%2C653-Nexperia-datasheet-10028690.pdf?src-supplier=Newark
footprint SOIC-14
pins: 1 1Q, 2 1Q', 3 1CP, 4 1CD, 5 1D, 6 1SD, 7 VSS, 8 2SD, 9 2D, 10 2CD, 11 2CP, 12 2Q', 13 2Q, 14 VDD

## IHLP2020CZER4R7M11
designator L?
Inductor Power Shielded Wirewound 4.7uH 20% 100KHz Powdered Iron 4.5A 60mOhm DCR 2020 T/R; Manufacturer: Vishay; Manufacturer Part Number: IHLP2020CZER4R7M11; Supplier 1: Mouser; RoHS: No; Category: Fixed Inductors; Stock 1: 10031; Pricing 1: 1=1,19, 10=1,02, 50=1,02, 100=0,828, 1000=0,828, 10000=0,473 (USD); ComponentLink1URL: https://datasheet.ciiva.com/14803/lp20cz11-14803040.pdf?src-supplier=Arrow+Electronics; ComponentLink1Description: https://datasheet.ciiva.com/14803/lp20cz11-14803040.pdf?src-supplier=Arrow+Electronics; ComponentLink2URL: https://datasheet.ciiva.com/11798/0900766b8102c930-11798346.pdf?src-supplier=Rs; ComponentLink2Description: https://datasheet.ciiva.com/11798/0900766b8102c930-11798346.pdf?src-supplier=Rs; ComponentLink3URL: https://datasheet.ciiva.com/22694/480942-22694470.pdf?src-supplier=Element14; ComponentLink3Description: https://datasheet.ciiva.com/22694/480942-22694470.pdf?src-supplier=Element14; ComponentLink4URL: https://datasheet.ciiva.com/8017/480942-8017228.pdf?src-supplier=Element14; ComponentLink4Description: https://datasheet.ciiva.com/8017/480942-8017228.pdf?src-supplier=Element14; ComponentLink5URL: https://datasheet.ciiva.com/8494/lp20cz11-8494950.pdf?src-supplier=Avnet; ComponentLink5Description: https://datasheet.ciiva.com/8494/lp20cz11-8494950.pdf?src-supplier=Avnet; ComponentLink6URL: https://datasheet.ciiva.com/17112/70205433-17112327.pdf?src-supplier=Allied+Electronics; ComponentLink6Description: https://datasheet.ciiva.com/17112/70205433-17112327.pdf?src-supplier=Allied+Electronics; ComponentLink7URL: https://datasheet.ciiva.com/6688/lp20cz11-6688326.pdf?src-supplier=Digikey; ComponentLink7Description: https://datasheet.ciiva.com/6688/lp20cz11-6688326.pdf?src-supplier=Digikey; ComponentLink8URL: https://datasheet.ciiva.com/6688/lp20cz11-6688327.pdf?src-supplier=Digikey; ComponentLink8Description: https://datasheet.ciiva.com/6688/lp20cz11-6688327.pdf?src-supplier=Digikey; ComponentLink9URL: https://datasheet.ciiva.com/6688/lp20cz11-6688329.pdf?src-supplier=Digikey; ComponentLink9Description: https://datasheet.ciiva.com/6688/lp20cz11-6688329.pdf?src-supplier=Digikey
footprint IHLP2020CZER4R7M11
pins: 1, 2

## INA139NA/3K
designator U?
2.7 to 36V, 440kHz Variable gain current sense amplifier 5-SOT-23 -40 to 125; Manufacturer: Texas Instruments; Manufacturer Part Number: INA139NA/3K; Supplier 1: Mouser; RoHS: Yes; Category: Amplifiers - Op Amps, Buffer, Instrumentation; Stock 1: 20541; Pricing 1: 1=1,5, 10=1,27, 50=1,27, 100=1,02, 1000=0,737, 10000=0,736 (USD); ComponentLink1URL: https://datasheet.ciiva.com/15128/getdatasheetpartid-248784-15128606.pdf?src-supplier=Verical; ComponentLink1Description: https://datasheet.ciiva.com/15128/getdatasheetpartid-248784-15128606.pdf?src-supplier=Verical; ComponentLink2URL: https://datasheet.ciiva.com/1939/ina139-1939992.pdf?src-supplier=Digikey; ComponentLink2Description: https://datasheet.ciiva.com/1939/ina139-1939992.pdf?src-supplier=Digikey; ComponentLink3URL: https://datasheet.ciiva.com/1939/ina139-1939993.pdf?src-supplier=Digikey; ComponentLink3Description: https://datasheet.ciiva.com/1939/ina139-1939993.pdf?src-supplier=Digikey; ComponentLink4URL: https://datasheet.ciiva.com/1939/ina139-1939994.pdf?src-supplier=Digikey; ComponentLink4Description: https://datasheet.ciiva.com/1939/ina139-1939994.pdf?src-supplier=Digikey; ComponentLink5URL: https://datasheet.ciiva.com/2976/ina169-2976115.pdf?src-supplier=Avnet; ComponentLink5Description: https://datasheet.ciiva.com/2976/ina169-2976115.pdf?src-supplier=Avnet
footprint SOT23-5
pins: 1 OUT, 2 GND, 3 VIN+, 4 VIN+, 5 V+
text: VIN-; 1K

## IND 0402
designator L?
Inductor SMD 0402
footprint IND 0402
pins: 1, 2

## IND 0603
designator L?
Inductor SMD 0603
footprint IND 0603
pins: 1, 2

## IND 0805
designator L?
Inductor SMD 0805
footprint IND 0805
pins: 1, 2

## IRLML6344TRPBF
designator Q?
Small Signal Field-Effect Transistor; Manufacturer: Infineon; Manufacturer Part Number: IRLML6344TRPBF; Package Body Material: Plastic; Transistor Element Material: SILICON; Polarity/Channel Type: N-CHANNEL; Drain Current-Max (Abs) (ID): 5A; Drain-source On Resistance-Max: 29mR; DS Breakdown Voltage-Min: 30V; FET Technology: METAL-OXIDE SEMICONDUCTOR; Number of Elements: 1; Operating Mode: ENHANCEMENT MODE; Power Dissipation-Max (Abs): 1.3W; Pulsed Drain Current-Max (IDM): 25A; Time @ Peak Reflow Temperature-Max (s): 30s; Transistor Application: SWITCHING; JEDEC-95 Code: TO-236AB; Qualification Status: Not Qualified; Supplier: Arrow Electronics; Supplier Part Number: IRLML6344TRPBF; RoHS: Yes; Category: MOSFETs; Stock: 9000; Pricing: 3000=0,095, 6000=0,086, 9000=0,0735, 24000=0,0628 (USD); Pins: 3; Package Shape: Rectangular; Terminal Finish: Tin; Max Operating Temperature: 150°C; JESD-609 Code: e3; Drain Current-Max (ID): 5A; JESD-30 Code: R-PDSO-G3; Moisture Sensitivity Level: 1; Package Style: SMALL OUTLINEMeter; Peak Reflow Temperature (Cel): 260°C; Surface Mount: Yes; Terminal Form: Gull Wing; Terminal Position: DUAL; Reach SVHC Compliant: Yes; RoHS Compliant: Yes; ComponentLink1URL: https://datasheet.ciiva.com:443/pdfs/VipMasterIC/IC/IRSD/IRSD-S-A0000281304/IRSD-S-A0000281304-1.pdf?src-supplier=IHS+Markit; ComponentLink1Description: https://datasheet.ciiva.com:443/pdfs/VipMasterIC/IC/IRSD/IRSD-S-A0000281304/IRSD-S-A0000281304-1.pdf?src-supplier=IHS+Markit; ComponentLink2URL: http://www.farnell.com/datasheets/1911844.pdf?src-supplier=Farnell; ComponentLink2Description: http://www.farnell.com/datasheets/1911844.pdf?src-supplier=Farnell; ComponentLink3URL: https://datasheet.octopart.com/IRLML6344TRPBF-Infineon-datasheet-10031181.pdf?src-supplier=Farnell; ComponentLink3Description: https://datasheet.octopart.com/IRLML6344TRPBF-Infineon-datasheet-10031181.pdf?src-supplier=Farnell; ComponentLink4URL: https://www.infineon.com/dgdl/irlml6344pbf.pdf?fileId=5546d462533600a4015356689c44262c&src-supplier=Mouser; ComponentLink4Description: https://www.infineon.com/dgdl/irlml6344pbf.pdf?fileId=5546d462533600a4015356689c44262c&src-supplier=Mouser; ComponentLink5URL: https://www.infineon.com/dgdl/irlml6344pbf.pdf?fileId=5546d462533600a4015356689c44262c&src-supplier=Digikey; ComponentLink5Description: https://www.infineon.com/dgdl/irlml6344pbf.pdf?fileId=5546d462533600a4015356689c44262c&src-supplier=Digikey; ComponentLink6URL: https://www.infineon.com/dgdl/irlml6344pbf.pdf?fileId=5546d462533600a4015356689c44262c&src-supplier=Avnet; ComponentLink6Description: https://www.infineon.com/dgdl/irlml6344pbf.pdf?fileId=5546d462533600a4015356689c44262c&src-supplier=Avnet; ComponentLink7URL: https://www.infineon.com/dgdl/irlml6344pbf.pdf?fileId=5546d462533600a4015356689c44262c&src-supplier=Rs; ComponentLink7Description: https://www.infineon.com/dgdl/irlml6344pbf.pdf?fileId=5546d462533600a4015356689c44262c&src-supplier=Rs; ComponentLink8URL: https://www.infineon.com/dgdl/irlml6344pbf.pdf?fileId=5546d462533600a4015356689c44262c&src-supplier=Rutronik; ComponentLink8Description: https://www.infineon.com/dgdl/irlml6344pbf.pdf?fileId=5546d462533600a4015356689c44262c&src-supplier=Rutronik; ComponentLink9URL: https://www.infineon.com/dgdl/irlml6344pbf.pdf?fileId=5546d462533600a4015356689c44262c&src-supplier=TME; ComponentLink9Description: https://www.infineon.com/dgdl/irlml6344pbf.pdf?fileId=5546d462533600a4015356689c44262c&src-supplier=TME; ComponentLink10URL: https://www.infineon.com/dgdl/irlml6344pbf.pdf?fileId=5546d462533600a4015356689c44262c&src-supplier=Quest; ComponentLink10Description: https://www.infineon.com/dgdl/irlml6344pbf.pdf?fileId=5546d462533600a4015356689c44262c&src-supplier=Quest; ComponentLink11URL: https://www.infineon.com/dgdl/irlml6344pbf.pdf?fileId=5546d462533600a4015356689c44262c&src-supplier=Conrad; ComponentLink11Description: https://www.infineon.com/dgdl/irlml6344pbf.pdf?fileId=5546d462533600a4015356689c44262c&src-supplier=Conrad
footprint SOT23-3
pins: 1 G, 2 S, 3 D

## JST B2B-XH
designator J?
Connector Header Through Hole 2 position 0.098 (2.50mm)
footprint JST_B2B-XH-A
pins: 1, 2

## JST B3B-XH
designator J?
Connector Header, XH Series, 3 Position, 2.50mm, Through Hole, Press-Fit, Solder, Natural; Manufacturer: JST; Manufacturer Part Number: B3B-XH-A(LF)(SN); Supplier 1: CoreStaff; RoHS: Yes; Category: Headers and Wire Housings; Stock 1: 2101; Pricing 1: 1=39,94, 10=25,1, 50=21,68, 100=18,25, 500=17,57, 1000=17,12, 2000=16,44, 4000=15,79 (JPY); ComponentLink1URL: https://datasheet.ciiva.com/26894/getdatasheetpartid-640434-26894454.pdf?src-supplier=Verical; ComponentLink1Description: https://datasheet.ciiva.com/26894/getdatasheetpartid-640434-26894454.pdf?src-supplier=Verical; ComponentLink2URL: https://datasheet.ciiva.com/26894/getdatasheetpartid-440399-26894778.pdf?src-supplier=Verical; ComponentLink2Description: https://datasheet.ciiva.com/26894/getdatasheetpartid-440399-26894778.pdf?src-supplier=Verical; ComponentLink3URL: https://datasheet.ciiva.com/11746/0900766b8082653f-11746520.pdf?src-supplier=Rs; ComponentLink3Description: https://datasheet.ciiva.com/11746/0900766b8082653f-11746520.pdf?src-supplier=Rs
footprint JST_B3B-XH-A
pins: 1, 2, 3

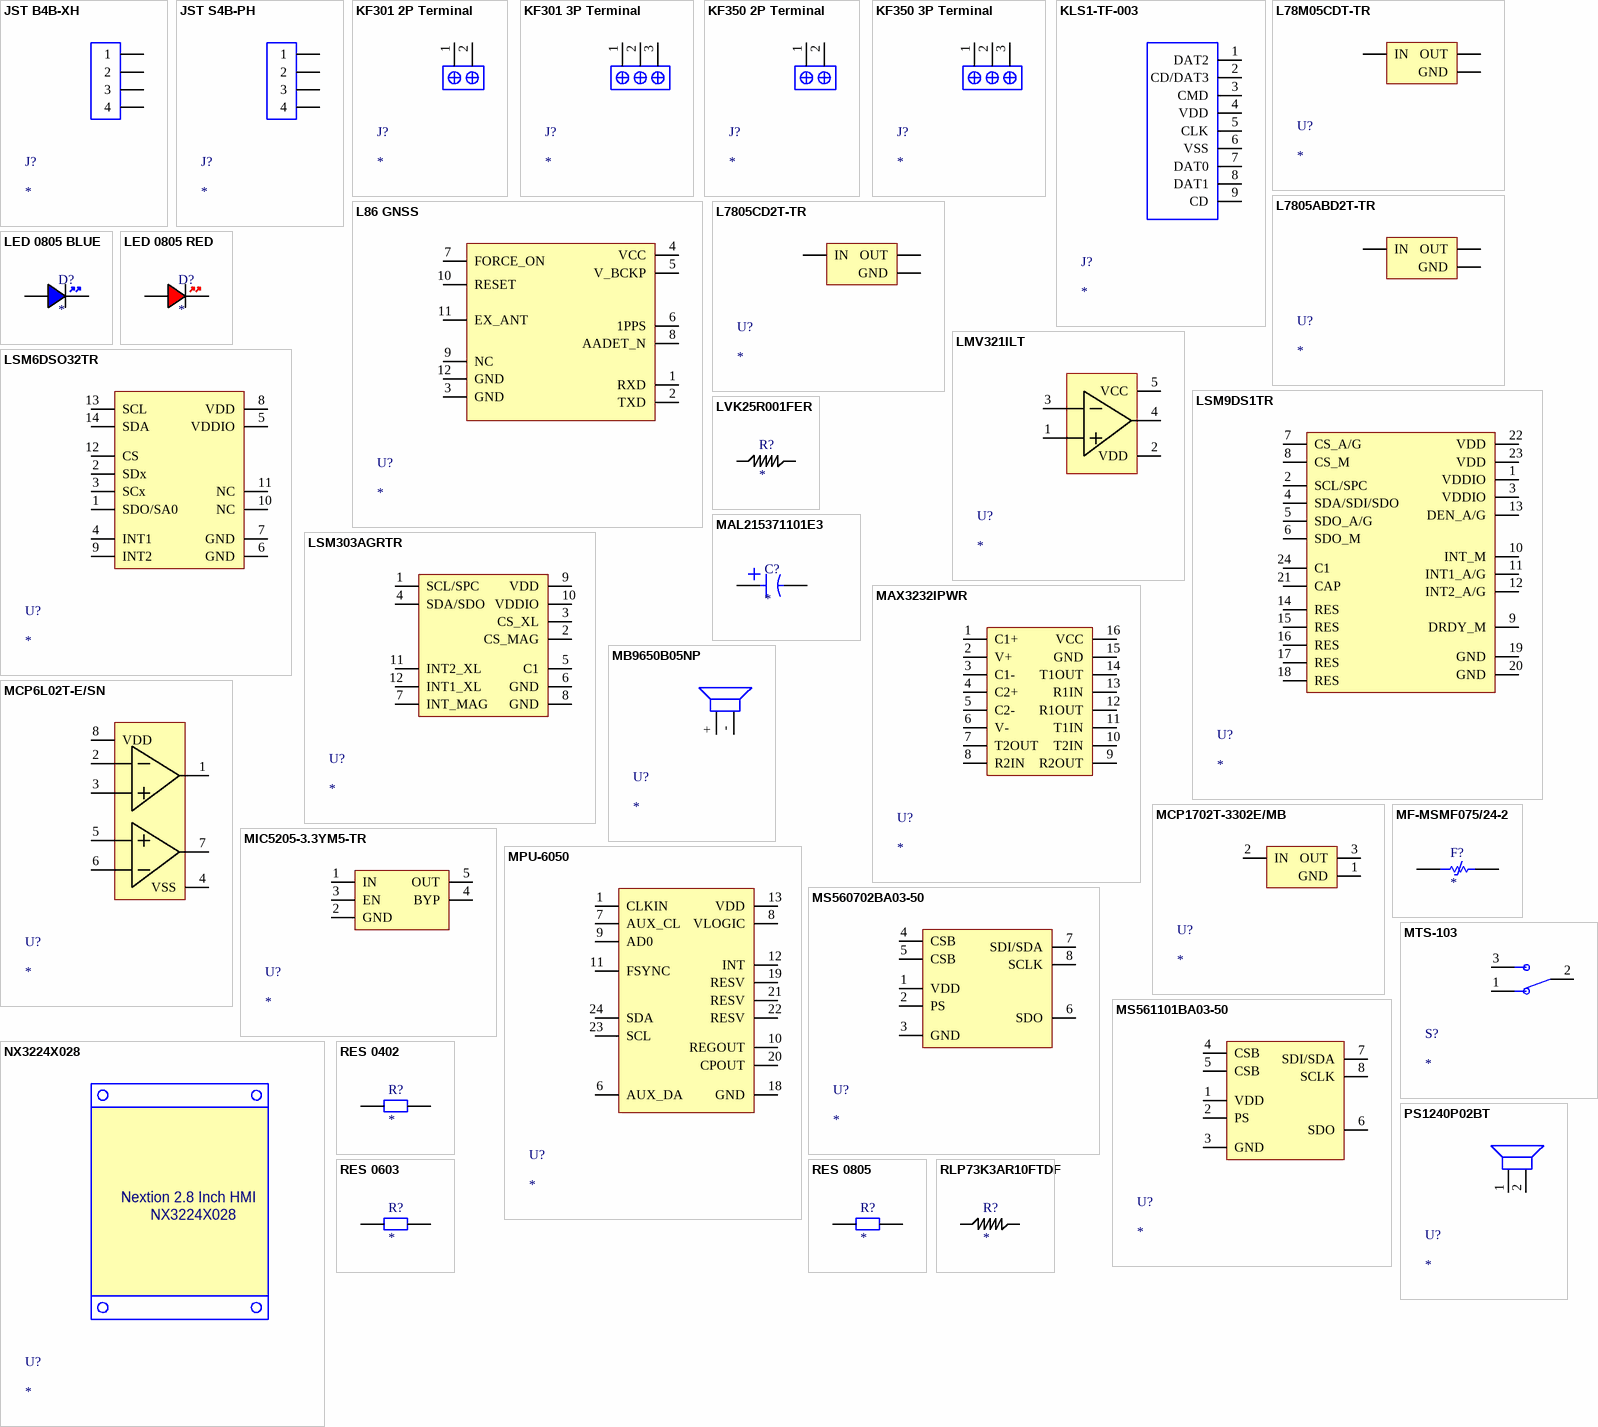
[diagram p3: symbols JST B4B-XH to RLP73K3AR10FTDF]

## JST B4B-XH
designator J?
Connector Header Through Hole 4 position 0.098 (2.50mm)
footprint JST_B4B-XH-A
pins: 1, 2, 3, 4

## JST S4B-PH
designator J?
Connector Header, PH Series, 4 Position, Side Entry, 2.00mm, Solder, Surface Mount, Natural.; Manufacturer: JST; Manufacturer Part Number: S4B-PH-SM4-TB(LF)(SN; Supplier: Future Electronics; Supplier Part Number: 1769371; RoHS: No; Category: Connectors; Stock: 8000; Pricing: 1000=0,32, 3000=0,315, 5000=0,31 (USD); ComponentLink1URL: http://uk.rs-online.com/webdocs/13ce/0900766b813ce4c5.pdf?src-supplier=Rs; ComponentLink1Description: http://uk.rs-online.com/webdocs/13ce/0900766b813ce4c5.pdf?src-supplier=Rs; ComponentLink2URL: https://datasheet.octopart.com/S4B-PH-SM4-TB%28LF%29%28SN%29-JST-datasheet-15068535.pdf?src-supplier=Newark; ComponentLink2Description: https://datasheet.octopart.com/S4B-PH-SM4-TB%28LF%29%28SN%29-JST-datasheet-15068535.pdf?src-supplier=Newark; ComponentLink3URL: https://datasheet.octopart.com/S4B-PH-SM4-TB%28LF%29%28SN%29-JST-datasheet-56537.pdf?src-supplier=Digikey; ComponentLink3Description: https://datasheet.octopart.com/S4B-PH-SM4-TB%28LF%29%28SN%29-JST-datasheet-56537.pdf?src-supplier=Digikey; ComponentLink4URL: https://datasheet.octopart.com/S4B-PH-SM4-TB%28LF%29%28SN%29-JST-datasheet-15068535.pdf?src-supplier=SOS+electronic; ComponentLink4Description: https://datasheet.octopart.com/S4B-PH-SM4-TB%28LF%29%28SN%29-JST-datasheet-15068535.pdf?src-supplier=SOS+electronic; ComponentLink5URL: https://datasheet.octopart.com/S4B-PH-SM4-TB%28LF%29%28SN%29-JST-datasheet-147762421.pdf?src-supplier=LKR; ComponentLink5Description: https://datasheet.octopart.com/S4B-PH-SM4-TB%28LF%29%28SN%29-JST-datasheet-147762421.pdf?src-supplier=LKR
footprint JST_S4B-PH
pins: 1, 2, 3, 4

## KF301 2P Terminal
designator J?
2 Pin Screw Terminal Block 5mm
footprint KF301 2P (2 Pin 5mm Terminal)
pins: 1, 2

## KF301 3P Terminal
designator J?
3 Pin Screw Terminal Block 5mm
footprint KF301 3P (3 Pin 5mm Terminal)
pins: 1, 2, 3

## KF350 2P Terminal
designator J?
2 Pin Screw Terminal Block 3.5mm
footprint KF350 2P
pins: 1, 2

## KF350 3P Terminal
designator J?
3 Pin Screw Terminal Block 3.5mm
footprint KF350 3P
pins: 1, 2, 3

## KLS1-TF-003
designator J?
KLS1-TF-003 Micro SD Card Connector
footprint L-KLS1-TF-003 (Micro SD Card Connector)
pins: 1 DAT2, 2 CD/DAT3, 3 CMD, 4 VDD, 5 CLK, 6 VSS, 7 DAT0, 8 DAT1, 9 CD

## L78M05CDT-TR
designator U?
IC REG LDO 5V 0.5A DPAK; Manufacturer: STMicroelectronics; Manufacturer Part Number: L78M05CDT-TR; Number of Outputs: 1; Max Input Voltage: 35V; Max Output Current: 500mA; Polarity: Positive; Quiescent Current: 6mA; Output Type: Fixed; Min Input Voltage: 7V; Dropout Voltage: 2V; Tolerance: 5%; Power Supply Rejection Ratio (PSRR): 62dB; Supplier 1: Mouser; RoHS: Yes; Category: Voltage Regulators - Linear; Stock 1: 74380; Pricing 1: 1=0,72, 10=0,629, 50=0,629, 100=0,482, 1000=0,305, 10000=0,277 (USD); Mount: Surface Mount; Case/Package: TO-252; Number of Pins: 3; Min Operating Temperature: 0°C; Max Operating Temperature: 150°C; Output Voltage: 5V; Packaging: Tape and Reel; Package Quantity: 2500; Output Current: 500mA; Nominal Output Voltage: 5V; Number of Regulators: 1; Min Output Voltage: 5V; Max Output Voltage: 5V; Series: -; Output Configuration: Positive; Length: 6.6mm; Width: 6.2mm; Height: 2.4mm; Radiation Hardening: No; RoHS Compliant: Yes; Reach SVHC Compliant: No; Lead Free: Lead Free; ComponentLink1URL: https://datasheet.ciiva.com/34303/2021024-34303902.pdf?src-supplier=Jameco; ComponentLink1Description: https://datasheet.ciiva.com/34303/2021024-34303902.pdf?src-supplier=Jameco; ComponentLink2URL: https://datasheet.ciiva.com/4882/cd00000447-93067-4882369.pdf?src-supplier=Mouser; ComponentLink2Description: https://datasheet.ciiva.com/4882/cd00000447-93067-4882369.pdf?src-supplier=Mouser; ComponentLink3URL: https://datasheet.ciiva.com/15111/getdatasheetpartid-111001-15111751.pdf?src-supplier=Verical; ComponentLink3Description: https://datasheet.ciiva.com/15111/getdatasheetpartid-111001-15111751.pdf?src-supplier=Verical; ComponentLink4URL: https://datasheet.ciiva.com/1512/1834365-1512349.pdf?src-supplier=Element14; ComponentLink4Description: https://datasheet.ciiva.com/1512/1834365-1512349.pdf?src-supplier=Element14; ComponentLink5URL: https://datasheet.ciiva.com/14111/tbl78mxxc-data-e-14111354.pdf?src-supplier=Distrelec; ComponentLink5Description: https://datasheet.ciiva.com/14111/tbl78mxxc-data-e-14111354.pdf?src-supplier=Distrelec; ComponentLink6URL: https://datasheet.ciiva.com/46425/1834365-46425535.pdf?src-supplier=Element14; ComponentLink6Description: https://datasheet.ciiva.com/46425/1834365-46425535.pdf?src-supplier=Element14; ComponentLink7URL: https://datasheet.ciiva.com/2041/cd00000447-2041991.pdf?src-supplier=Digi-Key; ComponentLink7Description: https://datasheet.ciiva.com/2041/cd00000447-2041991.pdf?src-supplier=Digi-Key; ComponentLink8URL: https://datasheet.ciiva.com/2041/cd00000447-2041990.pdf?src-supplier=Digi-Key; ComponentLink8Description: https://datasheet.ciiva.com/2041/cd00000447-2041990.pdf?src-supplier=Digi-Key; ComponentLink9URL: https://datasheet.ciiva.com/2041/cd00000447-2041992.pdf?src-supplier=Digi-Key; ComponentLink9Description: https://datasheet.ciiva.com/2041/cd00000447-2041992.pdf?src-supplier=Digi-Key; ComponentLink10URL: https://datasheet.ciiva.com/16443/cd00000447-16443381.pdf?src-supplier=Future+Electronics; ComponentLink10Description: https://datasheet.ciiva.com/16443/cd00000447-16443381.pdf?src-supplier=Future+Electronics; ComponentLink11URL: https://datasheet.ciiva.com/41439/001184659-da-01-en-ic-reg-ldo-5v-l78m05cdt-tr-to-252-3-stm-41439772.pdf?src-supplier=Conrad; ComponentLink11Description: https://datasheet.ciiva.com/41439/001184659-da-01-en-ic-reg-ldo-5v-l78m05cdt-tr-to-252-3-stm-41439772.pdf?src-supplier=Conrad
footprint L78M05CDT-TR
pins: 1 IN, 2 GND, 3 OUT

## L86 GNSS
designator U?
footprint L86
pins: 1 RXD, 2 TXD, 3 GND, 4 VCC, 5 V_BCKP, 6 1PPS, 7 FORCE_ON, 8 AADET_N, 9 NC, 10 RESET, 11 EX_ANT, 12 GND

## L7805ABD2T-TR
designator U?
V REG, 2VDO, 1.5A, 5V, 2%, 3D2PAK; Fixed Output Voltage Nom.: 5V; Adjustable Min: -; Max: -; Input; Manufacturer: STMicroelectronics; Manufacturer Part Number: L7805ABD2T-TR; Max Input Voltage: 35V; Number of Outputs: 1; Polarity: Positive; Quiescent Current: 6mA; Dropout Voltage: 2V; Min Input Voltage: 7V; Power Supply Rejection Ratio (PSRR): 68dB; Supplier 1: Mouser; RoHS: Yes; Category: Voltage Regulators - Linear; Stock 1: 113594; Pricing 1: 1=1,06, 10=0,944, 50=0,896, 100=0,736, 1000=0,48, 10000=0,425 (USD); Mount: Surface Mount,Through Hole; Case/Package: TO-263; Number of Pins: 3; Weight: 7.1E-05oz; Min Operating Temperature: -40°C; Max Operating Temperature: 125°C; Output Voltage: 5V; Max Output Current: 1.5A; Accuracy: 2%; Output Type: Fixed; Output Current: 1.5A; Packaging: Tape and Reel; Package Quantity: 1; Nominal Output Voltage: 5V; Number of Regulators: 1; Min Output Voltage: 5V; Output Voltage Accuracy: 2%; Series: -; Length: 10.4mm; Width: 4.6mm; Height: 9.35mm; Radiation Hardening: No; Reach SVHC Compliant: No; Lead Free: Lead Free; RoHS Compliant: Yes; ComponentLink1URL: https://datasheet.ciiva.com/22710/1805459-22710936.pdf?src-supplier=Element14; ComponentLink1Description: https://datasheet.ciiva.com/22710/1805459-22710936.pdf?src-supplier=Element14; ComponentLink2URL: https://datasheet.ciiva.com/19478/1991635-19478158.pdf?src-supplier=Jameco; ComponentLink2Description: https://datasheet.ciiva.com/19478/1991635-19478158.pdf?src-supplier=Jameco; ComponentLink3URL: https://datasheet.ciiva.com/30477/0900766b81282455-30477417.pdf?src-supplier=Rs; ComponentLink3Description: https://datasheet.ciiva.com/30477/0900766b81282455-30477417.pdf?src-supplier=Rs; ComponentLink4URL: https://datasheet.ciiva.com/15111/getdatasheetpartid-110622-15111745.pdf?src-supplier=Verical; ComponentLink4Description: https://datasheet.ciiva.com/15111/getdatasheetpartid-110622-15111745.pdf?src-supplier=Verical; ComponentLink5URL: https://datasheet.ciiva.com/1511/1805459-1511905.pdf?src-supplier=Element14; ComponentLink5Description: https://datasheet.ciiva.com/1511/1805459-1511905.pdf?src-supplier=Element14; ComponentLink6URL: https://datasheet.ciiva.com/2043/cd00000444-2043018.pdf?src-supplier=Digi-Key; ComponentLink6Description: https://datasheet.ciiva.com/2043/cd00000444-2043018.pdf?src-supplier=Digi-Key; ComponentLink7URL: https://datasheet.ciiva.com/2043/cd00000444-2043017.pdf?src-supplier=Digi-Key; ComponentLink7Description: https://datasheet.ciiva.com/2043/cd00000444-2043017.pdf?src-supplier=Digi-Key; ComponentLink8URL: https://datasheet.ciiva.com/2043/cd00000444-2043019.pdf?src-supplier=Digi-Key; ComponentLink8Description: https://datasheet.ciiva.com/2043/cd00000444-2043019.pdf?src-supplier=Digi-Key; ComponentLink9URL: https://datasheet.ciiva.com/4882/cd00000444-4882284.pdf?src-supplier=Mouser; ComponentLink9Description: https://datasheet.ciiva.com/4882/cd00000444-4882284.pdf?src-supplier=Mouser; ComponentLink10URL: https://datasheet.ciiva.com/16344/cd00000444-16344252.pdf?src-supplier=Future+Electronics; ComponentLink10Description: https://datasheet.ciiva.com/16344/cd00000444-16344252.pdf?src-supplier=Future+Electronics; Supplier Part Number 1: 511-L7805ABD2T-TR
footprint L7805ABD2T-TR
pins: 1 IN, 2 GND, 3 OUT